# Altium schematic symbol library LM2903Q2T.Schlib: 1 symbol
Pins are listed as number, name and electrical type; pins without a type are passive.

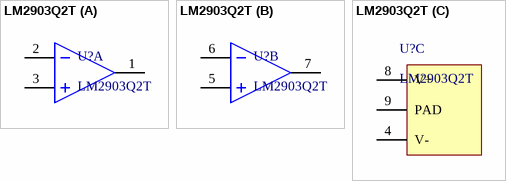
[diagram p0: symbol LM2903Q2T]

## LM2903Q2T
designator U?
Comparator Differential CMOS, DTL, ECL, TTL 8-DFN (2x2)
part A pins: 1 OUT1 (oc), 2 IN1- (hiz), 3 IN1+ (hiz)
part B pins: 5 IN2+ (hiz), 6 IN2- (hiz), 7 OUT2 (oc)
part C pins: 4 V- (power), 8 V+ (power), 9 PAD (power)